# Altium schematic symbol library MB0026A.01.A.1.SchLib: 1 symbol
Pins are listed as number, name and electrical type; pins without a type are passive.

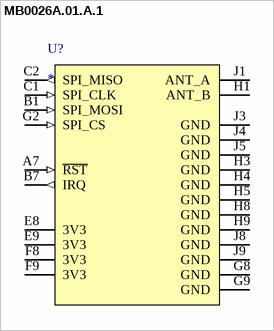
[diagram p0: symbol MB0026A.01.A.1]

## MB0026A.01.A.1
designator U?
pins: A7 ~{RST} (in), B1 SPI_MOSI (in), B7 IRQ (out), C1 SPI_CLK (in), C2 SPI_MISO (out), E8 3V3 (power), E9 3V3 (power), F8 3V3 (power), F9 3V3 (power), G2 SPI_CS (in), G8 GND (power), G9 GND (power), H1 ANT_B, H3 GND (power), H4 GND (power), H5 GND (power), H8 GND (power), H9 GND (power), J1 ANT_A, J3 GND (power), J4 GND (power), J5 GND (power), J8 GND (power), J9 GND (power)